# Altium schematic symbol library Schlib1.SchLib: 5 symbols
Pins are listed as number, name and electrical type; pins without a type are passive.

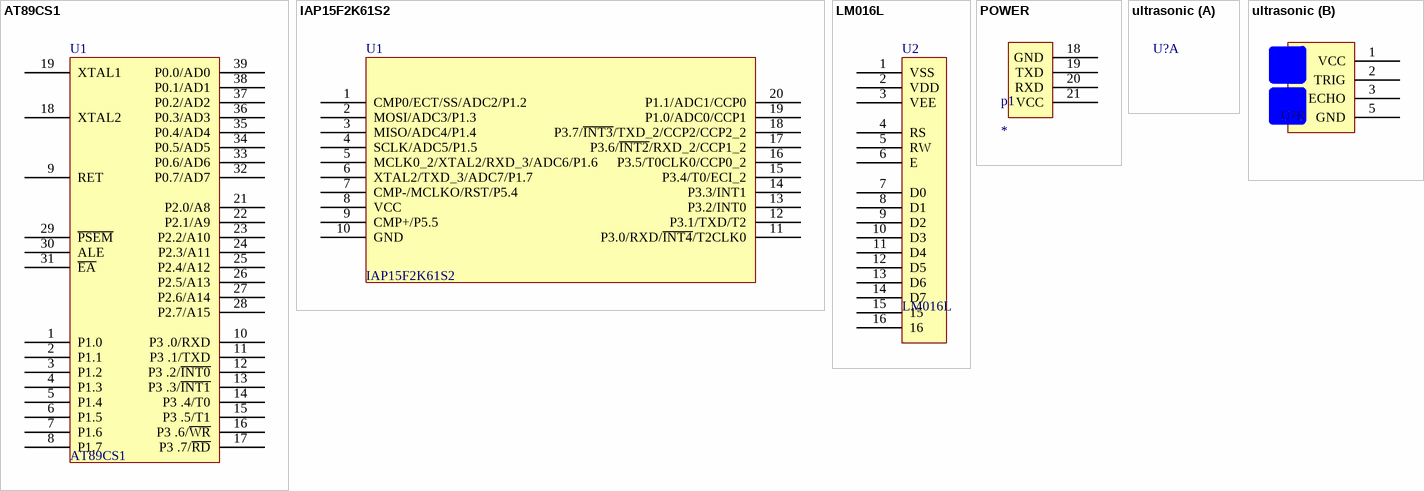
[diagram p0: symbols AT89CS1 to ultrasonic]

## AT89CS1
designator U1
footprint DIP20
pins: 1 P1.0, 2 P1.1, 3 P1.2, 4 P1.3, 5 P1.4, 6 P1.5, 7 P1.6, 8 P1.7, 9 RET, 10 P3 .0/RXD, 11 P3 .1/TXD, 12 P3 .2/~{INT0}, 13 P3 .3/~{INT1}, 14 P3 .4/T0, 15 P3 .5/T1, 16 P3 .6/~{WR}, 17 P3 .7/~{RD}, 18 XTAL2, 19 XTAL1, 21 P2.0/A8, 22 P2.1/A9, 23 P2.2/A10, 24 P2.3/A11, 25 P2.4/A12, 26 P2.5/A13, 27 P2.6/A14, 28 P2.7/A15, 29 ~{PSEM}, 30 ALE, 31 ~{EA}, 32 P0.7/AD7, 33 P0.6/AD6, 34 P0.5/AD5, 35 P0.4/AD4, 36 P0.3/AD3, 37 P0.2/AD2, 38 P0.1/AD1, 39 P0.0/AD0

## IAP15F2K61S2
designator U1
footprint DIP20
pins: 1 CMP0/ECT/SS/ADC2/P1.2, 2 MOSI/ADC3/P1.3, 3 MISO/ADC4/P1.4, 4 SCLK/ADC5/P1.5, 5 MCLK0_2/XTAL2/RXD_3/ADC6/P1.6, 6 XTAL2/TXD_3/ADC7/P1.7, 7 CMP-/MCLKO/RST/P5.4, 8 VCC, 9 CMP+/P5.5, 10 GND, 11 P3.0/RXD/~{INT4}/T2CLK0, 12 P3.1/TXD/T2, 13 P3.2/INT0, 14 P3.3/INT1, 15 P3.4/T0/ECI_2, 16 P3.5/T0CLK0/CCP0_2, 17 P3.6/~{INT2}/RXD_2/CCP1_2, 18 P3.7/~{INT3}/TXD_2/CCP2/CCP2_2, 19 P1.0/ADC0/CCP1, 20 P1.1/ADC1/CCP0

## LM016L
designator U2
footprint LCD1602
pins: 1 VSS, 2 VDD, 3 VEE, 4 RS, 5 RW, 6 E, 7 D0, 8 D1, 9 D2, 10 D3, 11 D4, 12 D5, 13 D6, 14 D7, 15, 16

## POWER
designator p1
footprint POWER
pins: 18 GND, 19 TXD, 20 RXD, 21 VCC

## ultrasonic
designator U?
footprint sonic
part B pins: 1 VCC, 2 TRIG, 3 ECHO, 5 GND